# Altium schematic symbol library 2SA1037AK.Schlib: 1 symbol
Pins are listed as number, name and electrical type; pins without a type are passive.

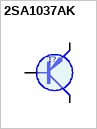
[diagram p0: symbol 2SA1037AK]

## 2SA1037AK
designator T?
SOT23     50V 0.15A    140MHz    5p (2SC2412)
pins: 1 B, 2 E (oe), 3 C (oc)
1 alternate drawing of the same symbol